# EAGLE library part MCP4922 (library mylib2)
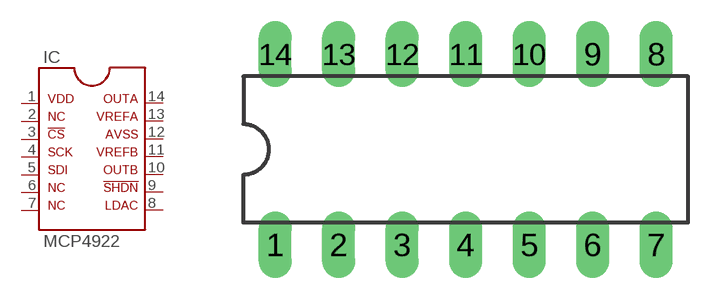
[diagram p20: symbol with the pads of MCP4922; footprint MCP4922]

Designator prefix IC

## MCP4922  [MCP4922]
1  1  pwr
2  2  nc
3  3  in
4  4  in
5  5  in
6  6  nc
7  7  nc
8  8  in
9  9  in
10  10  out
11  11  in
12  12  pwr
13  13  in
14  14  out

## Footprint MCP4922 (pad centres in mm)
drill 0.813 long: 1 -6.35,-3.81; 2 -3.81,-3.81; 3 -1.27,-3.81; 4 1.27,-3.81; 5 3.81,-3.81; 6 6.35,-3.81; 7 8.89,-3.81; 8 8.89,3.81; 9 6.35,3.81; 10 3.81,3.81; 11 1.27,3.81; 12 -1.27,3.81; 13 -3.81,3.81; 14 -6.35,3.81